# EAGLE library part IRS2186PBF (library International_Rectifier_By_element14_Batch_1)
HIGH AND LOW SIDE DRIVER
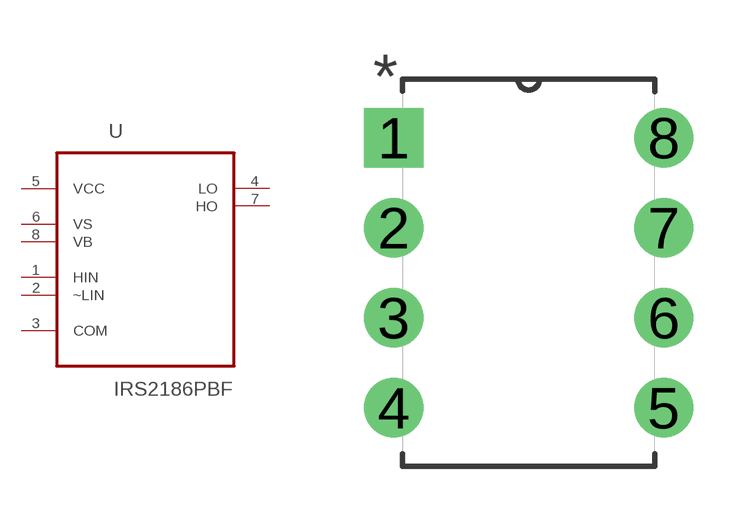
[diagram p98: symbol with the pads of DIP254P762X533-8; footprint DIP254P762X533-8]

Designator prefix U

## IRS2186PBF (MPN: IRS2186PBF; OC_FARNELL: 1688540; OC_NEWARK: 21M6609; PACKAGE: PDIP; SUPPLIER: INTERNATIONAL RECTIFIER)  [DIP254P762X533-8]
1  HIN  in
2  ~LIN  in
3  COM  in
4  LO  out
5  VCC  pwr
6  VS  pwr
7  HO  out
8  VB  pwr

## Footprint DIP254P762X533-8 (pad centres in mm)
drill 1.118 square: 1 -7.62,7.62
drill 1.118: 2 -7.62,5.08; 3 -7.62,2.54; 4 -7.62,0; 5 0,0; 6 0,2.54; 7 0,5.08; 8 0,7.62